# Altium footprint library Transformer_12+12V.PcbLib: 1 footprints
Each footprint in its own frame and in the unit in brackets; x right, y up, seen from the top. Pads: shape width x height; smd on the part's side, far side on the other; paste and mask are expansions set on the pad; w line width, h text height; cw(c..) or ccw(c..) is an arc to the next point about the centre after c.
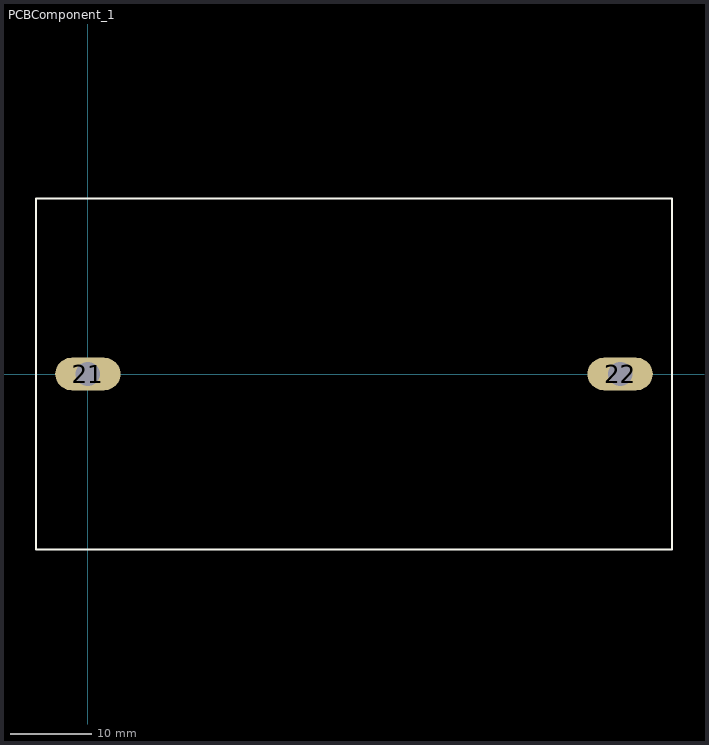
[diagram p0: the footprint, top view; thin cyan lines are the x and y axes]

## PCBComponent_1 [mm]
pads (2):
  oval 8x4 hole 3: 21(0,0) 22(65.24,0)
Top Overlay:
  lines w0.254: -6.38,-21.5 -6.38,21.5 71.62,21.5 71.62,-21.5 -6.38,-21.5